# EAGLE library part 61300711821 (library Wurth_Elektronik2)
WR-PHD 2.54mm Socket Header, 7 Pins =>Code : Con_BTB_SHD_2.54_1_THT_61300711821 <http://katalog.we-online.de/media/images/eican/Con_BTB_SHD_2.54_1_THT_6130xx11821_pf2.jpg> Details see: http://katalog.we-online.de/en/em/613_0xx_118_21 Created 2014-05-29, Karrer Zheng 2014 (C) Würth Elektronik
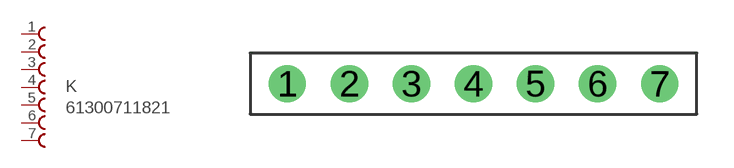
[diagram p91: symbol with the pads of 61300711821; footprint 61300711821]

Designator prefix K

## 61300711821  [61300711821]
1  1  pas
2  2  pas
3  3  pas
4  4  pas
5  5  pas
6  6  pas
7  7  pas

## Footprint 61300711821 (pad centres in mm)
WR-PHD 2.54mm Socket Header, 7 Pins
drill 1.02: 1 -7.62,0; 2 -5.08,0; 3 -2.54,0; 4 0,0; 5 2.54,0; 6 5.08,0; 7 7.62,0